# Altium schematic symbol library MCP1640.Schlib: 1 symbol
Pins are listed as number, name and electrical type; pins without a type are passive.

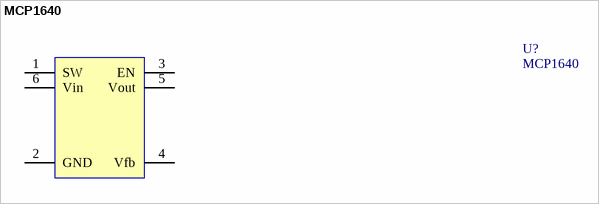
[diagram p0: symbol MCP1640]

## MCP1640
designator U?
IC, DC/DC Converter
pins: 1 SW, 2 GND, 3 EN, 4 Vfb, 5 Vout, 6 Vin